# EAGLE library part QUECTEL_BC95 (library GSM)
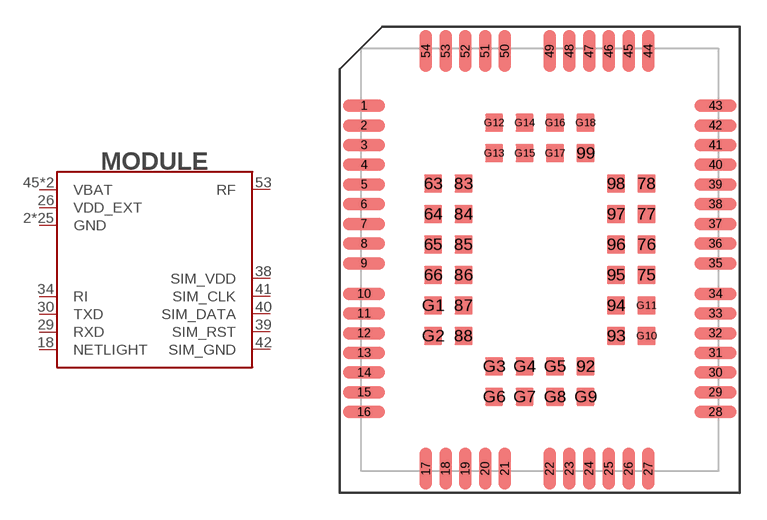
[diagram p1: symbol with the pads of QUECTEL_BC95; footprint QUECTEL_BC95]

Designator prefix MODULE

## QUECTEL_BC95 (MANF: QUECTEL; MANF#: BC95)  [QUECTEL_BC95]
2  GND
18  NETLIGHT
26  VDD_EXT
29  RXD
30  TXD
34  RI
38  SIM_VDD
39  SIM_RST
40  SIM_DATA
41  SIM_CLK
42  SIM_GND
43  GND
44  GND
45  VBAT
46  VBAT
47  GND
51  GND
52  GND
53  RF
54  GND
G1  GND
G2  GND
G3  GND
G4  GND
G5  GND
G6  GND
G7  GND
G8  GND
G9  GND
G10  GND
G11  GND
G12  GND
G13  GND
G14  GND
G15  GND
G16  GND
G17  GND
G18  GND

## Footprint QUECTEL_BC95 (pad centres in mm)
smd 2.35 x 0.7: 1 -9.8,8.6; 2 -9.8,7.5; 3 -9.8,6.4; 4 -9.8,5.3; 5 -9.8,4.2; 6 -9.8,3.1; 7 -9.8,2; 8 -9.8,0.9; 9 -9.8,-0.2; 10 -9.8,-1.9; 11 -9.8,-3; 12 -9.8,-4.1; 13 -9.8,-5.2; 14 -9.8,-6.3; 15 -9.8,-7.4; 16 -9.8,-8.5; 28 9.8,-8.5; 29 9.8,-7.4; 30 9.8,-6.3; 31 9.8,-5.2; 32 9.8,-4.1; 33 9.8,-3; 34 9.8,-1.9; 35 9.8,-0.2; 36 9.8,0.9; 37 9.8,2; 38 9.8,3.1; 39 9.8,4.2; 40 9.8,5.3; 41 9.8,6.4; 42 9.8,7.5; 43 9.8,8.6
smd 0.7 x 2.35: 17 -6.35,-11.65; 18 -5.25,-11.65; 19 -4.15,-11.65; 20 -3.05,-11.65; 21 -1.95,-11.65; 22 0.55,-11.65; 23 1.65,-11.65; 24 2.75,-11.65; 25 3.85,-11.65; 26 4.95,-11.65; 27 6.05,-11.65; 44 6.05,11.65; 45 4.95,11.65; 46 3.85,11.65; 47 2.75,11.65; 48 1.65,11.65; 49 0.55,11.65; 50 -1.95,11.65; 51 -3.05,11.65; 52 -4.15,11.65; 53 -5.25,11.65; 54 -6.35,11.65
smd 1 x 1: 63 -5.95,4.25; 64 -5.95,2.55; 65 -5.95,0.85; 66 -5.95,-0.85; 75 5.95,-0.85; 76 5.95,0.85; 77 5.95,2.55; 78 5.95,4.25; 83 -4.25,4.25; 84 -4.25,2.55; 85 -4.25,0.85; 86 -4.25,-0.85; 87 -4.25,-2.55; 88 -4.25,-4.25; 92 2.55,-5.95; 93 4.25,-4.25; 94 4.25,-2.55; 95 4.25,-0.85; 96 4.25,0.85; 97 4.25,2.55; 98 4.25,4.25; 99 2.55,5.95; G1 -5.95,-2.55; G2 -5.95,-4.25; G3 -2.55,-5.95; G4 -0.85,-5.95; G5 0.85,-5.95; G6 -2.55,-7.65; G7 -0.85,-7.65; G8 0.85,-7.65; G9 2.55,-7.65; G10 5.95,-4.25; G11 5.95,-2.55; G12 -2.55,7.65; G13 -2.55,5.95; G14 -0.85,7.65; G15 -0.85,5.95; G16 0.85,7.65; G17 0.85,5.95; G18 2.55,7.65